# Altium schematic symbol library RPIadaptor.SchLib: 47 symbols (part 2 of 2)
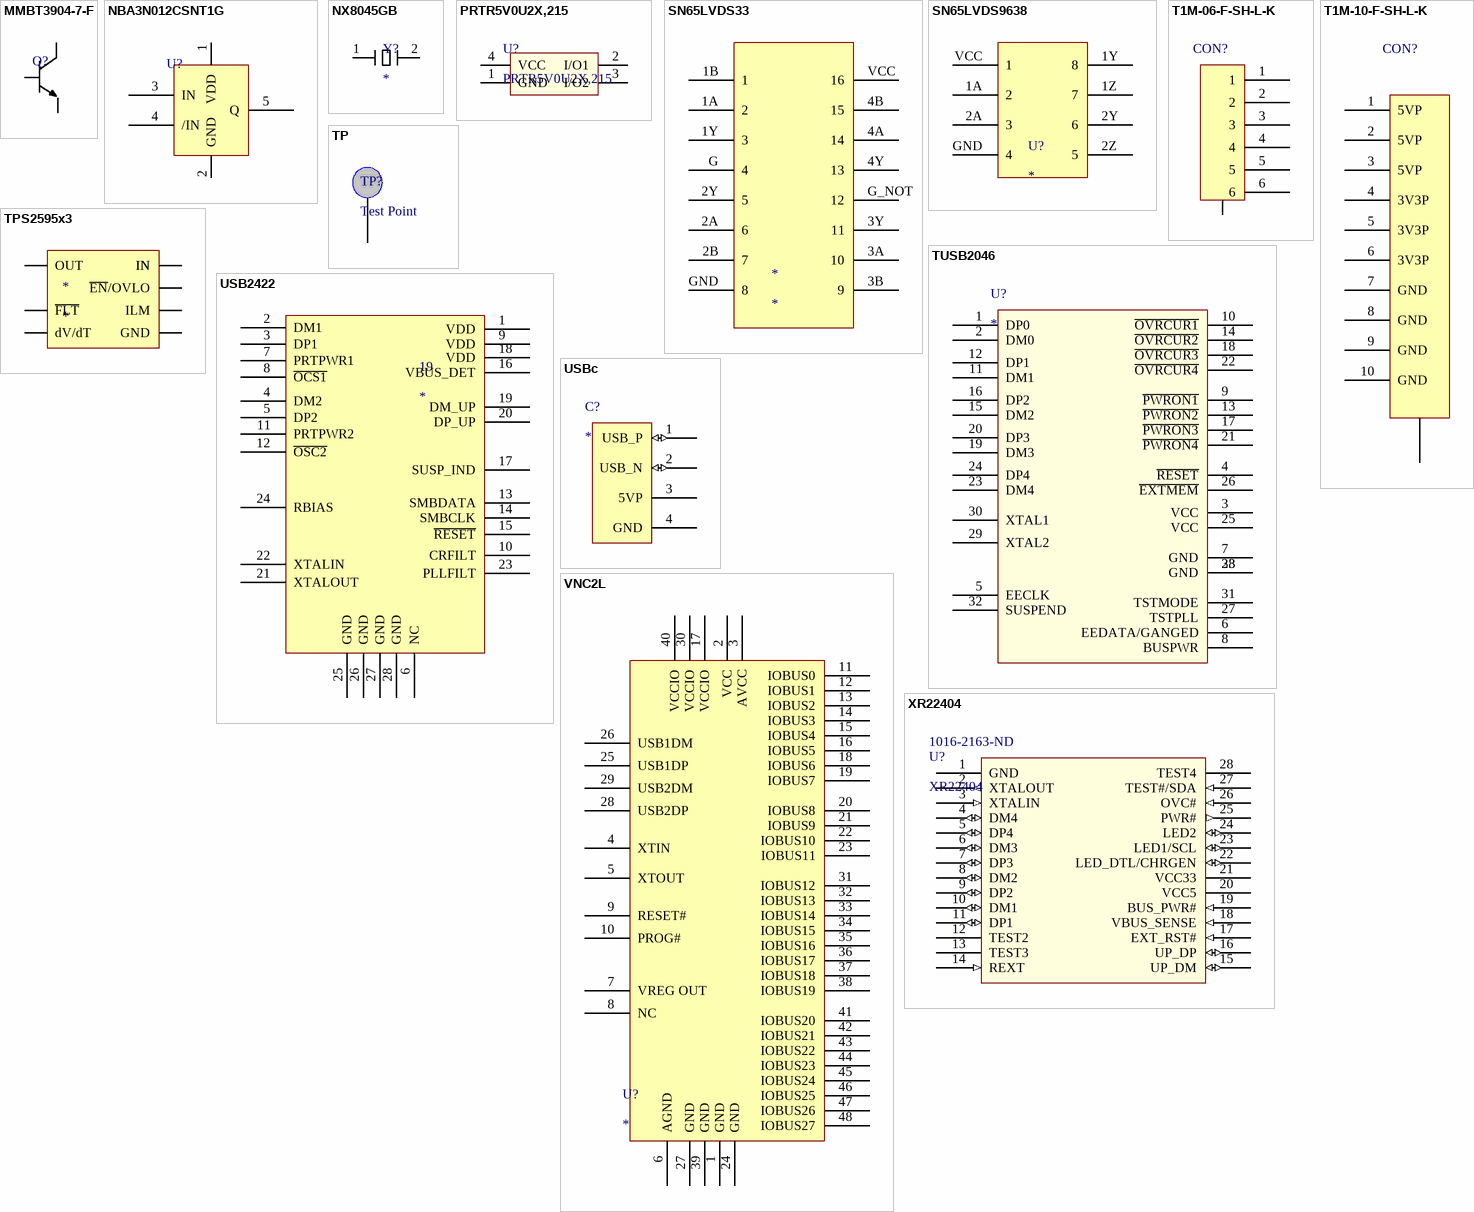
[diagram p2: symbols MMBT3904-7-F to XR22404]

## MMBT3904-7-F
designator Q?
Bipolar (BJT) Transistor NPN 40V 200mA 300MHz 300mW Surface Mount SOT-23-3; Manufacturer: Diodes Zetex; Manufacturer Part Number: MMBT3904-7-F; Configuration: Single; Collector- Base Voltage VCBO: 60 V; Emitter- Base Voltage VEBO: 6 V; Collector-Emitter Saturation Voltage: 0.3 V; Maximum DC Collector Current: 0.2 A; Brand: Diodes Incorporated; DC Collector/Base Gain hfe Min: 100; DC Current Gain hFE Max: 300; Pd - Power Dissipation: 310 mW; Unit Weight: 0.000282 oz; Supplier 1: Digi-Key; Stock 1: 1491605; Pricing 1: 1=0.13, 10=0.119, 100=0.0648, 500=0.0399, 1000=0.0272 (USD); Product Category: Bipolar Transistors - BJT; RoHS: True; Mounting Style: SMD/SMT; Package / Case: SOT-23; Transistor Polarity: NPN; Collector- Emitter Voltage VCEO Max: 40 V; Gain Bandwidth Product fT: 300 MHz; Maximum Operating Temperature: + 150 C; Series: MMBT3904; Continuous Collector Current: 0.2 A; Height: 1 mm; Length: 3.05 mm; Minimum Operating Temperature: - 55 C; Packaging: Reel; Factory Pack Quantity: 3000; Width: 1.4 mm; ComponentLink1URL: https://datasheet.ciiva.com/11201/ds30036-11201778.pdf; ComponentLink1Description: https://datasheet.ciiva.com/11201/ds30036-11201778.pdf; ComponentLink2URL: https://datasheet.ciiva.com/6361/ds30036-6361254.pdf; ComponentLink2Description: https://datasheet.ciiva.com/6361/ds30036-6361254.pdf; ComponentLink3URL: https://datasheet.ciiva.com/22711/1915516-22711750.pdf; ComponentLink3Description: https://datasheet.ciiva.com/22711/1915516-22711750.pdf; ComponentLink4URL: https://datasheet.ciiva.com/11198/ds30036-11198999.pdf; ComponentLink4Description: https://datasheet.ciiva.com/11198/ds30036-11198999.pdf; ComponentLink5URL: https://datasheet.ciiva.com/16615/ds30036-16615399.pdf; ComponentLink5Description: https://datasheet.ciiva.com/16615/ds30036-16615399.pdf; ComponentLink6URL: https://datasheet.ciiva.com/6361/ds30036-6361256.pdf; ComponentLink6Description: https://datasheet.ciiva.com/6361/ds30036-6361256.pdf; ComponentLink7URL: https://datasheet.ciiva.com/15138/getdatasheetpartid-53265-15138780.pdf; ComponentLink7Description: https://datasheet.ciiva.com/15138/getdatasheetpartid-53265-15138780.pdf; Supplier Part Number 1: MMBT3904-FDICT-ND
footprint MMBT3904-7-F (SOT23-3)
pins: B, C, E

## NBA3N012CSNT1G
designator U?  (value not drawn)
IC RECEIVER LVDS 3.3V SOT23-5; Manufacturer: ON Semiconductor; Supplier 1: Digi-Key; Manufacturer Part Number: NBA3N012CSNT1G; Stock 1: 0; Supplier Part Number 1: NBA3N012CSNT1GOSCT-ND
footprint NBA3N012CSNT1G (SOT23, 5-Leads, Body 2.90x2.80mm, Pitch 0.95mm, IPC Medium Density)
pins: 1 VDD, 2 GND (power), 3 IN, 4 /IN, 5 Q

## NX8045GB
designator Y?
footprint NX8045GB
pins: 1, 2

## PRTR5V0U2X,215
designator U?
TVS DIODE 5.5VWM SOT143B; Manufacturer: NXP Semiconductors; Capacitance Value: 16pF; Configuration: Quad; Direction Type: Uni-Directional; ESD Protection Voltage: 8KV@Contact Disc; Leakage Current: 0.1uA; Number of  Elements: 1; Product Depth (mm): 1.4 mm; Product Height (mm): 1 mm; Product Length (mm): 3 mm; Rad Hardened: No; Reverse Breakdown Voltage: 6 V; Reverse Stand-off Voltage: 5.5 V; Suppressor Type: Diode Arrays; Working Voltage: 5.5V; Supplier 1: Digi-Key; Manufacturer Part Number: PRTR5V0U2X,215; Stock 1: 73838; Pricing 1: 1=0.52, 10=0.447, 100=0.334, 500=0.2624, 1000=0.2028 (USD); Leakage Current (Max): 0.1uA; Mounting: Surface Mount; Mounting Style: Surface Mount; Operating Temp Range: -40C to 85C; Operating Temperature Classification: Industrial; Operating Temperature Max Deg. C: 85C; Operating Temperature Min Deg. C: -40C; Package / Case: SOT; Package Type: SOT; Packaging: Tape and Reel; Pin Count: 3 +Tab; Polarity: Uni-Directional; Working Voltage (Max): 5.5V; ComponentLink1URL: https://datasheet.ciiva.com/4479/prtr5v0u2x-102853-4479461.pdf; ComponentLink1Description: https://datasheet.ciiva.com/4479/prtr5v0u2x-102853-4479461.pdf; ComponentLink2URL: https://datasheet.ciiva.com/16199/prtr5v0u2x-16199605.pdf; ComponentLink2Description: https://datasheet.ciiva.com/16199/prtr5v0u2x-16199605.pdf; ComponentLink3URL: https://datasheet.ciiva.com/28409/109718-28409830.pdf; ComponentLink3Description: https://datasheet.ciiva.com/28409/109718-28409830.pdf; ComponentLink4URL: https://datasheet.ciiva.com/6918/109718-6918650.pdf; ComponentLink4Description: https://datasheet.ciiva.com/6918/109718-6918650.pdf; ComponentLink5URL: https://datasheet.ciiva.com/335/prtr5v0u2x-335467.pdf; ComponentLink5Description: https://datasheet.ciiva.com/335/prtr5v0u2x-335467.pdf; ComponentLink6URL: https://datasheet.ciiva.com/25919/prtr5v0u2x-25919147.pdf; ComponentLink6Description: https://datasheet.ciiva.com/25919/prtr5v0u2x-25919147.pdf; ComponentLink7URL: https://datasheet.ciiva.com/11193/prtr5v0u2x-11193230.pdf; ComponentLink7Description: https://datasheet.ciiva.com/11193/prtr5v0u2x-11193230.pdf; ComponentLink8URL: https://datasheet.ciiva.com/31402/109718-31402206.pdf; ComponentLink8Description: https://datasheet.ciiva.com/31402/109718-31402206.pdf; ComponentLink9URL: https://datasheet.ciiva.com/26787/prtr5v0u2x-215-26787348.pdf; ComponentLink9Description: https://datasheet.ciiva.com/26787/prtr5v0u2x-215-26787348.pdf; Supplier Part Number 1: 1727-3884-1-ND
footprint SOT143B (SOT143, 4-Leads, Body 2.90x2.30mm, Pitch 1.90mm, IPC Medium Density)
pins: 1 GND, 2 I/O1, 3 I/O2, 4 VCC

## SN65LVDS33
designator *
footprint SOIC127P820X265-8N (SOIC, 8-Leads, Body 6.40x5.71mm, Pitch 1.27mm, IPC Medium Density); pin to pad 1A>2 1B>1 1Y>3 2A>6 2B>7 2Y>5 3A>10 3B>9 3Y>11 4A>14 4B>15 4Y>13 G>4 G_NOT>12 GND>8 VCC>16
pins: 1A 2, 1B 1, 1Y 3, 2A 6, 2B 7, 2Y 5, 3A 10, 3B 9, 3Y 11, 4A 14, 4B 15, 4Y 13, G 4, G_NOT 12, GND 8, VCC 16

## SN65LVDS9638
designator U?
footprint SN65LVDS31; pin to pad 1A>2 1Y>8 1Z>7 2A>3 2Y>6 2Z>5 GND>4 VCC>1
pins: 1A 2, 1Y 8, 1Z 7, 2A 3, 2Y 6, 2Z 5, GND 4, VCC 1

## T1M-06-F-SH-L-K
designator CON?
6 Positions Header Connector Surface Mount, Right Angle; Manufacturer: Samtec; Manufacturer Part Number: T1M-06-F-SH-L-K; Supplier 1: Digi-Key; Stock 1: 0; Supplier Part Number 1: SAM11991-ND
footprint T1M-06-F-SH-L-K
pins: 1, 2, 3, 4, 5, 6, GND

## T1M-10-F-SH-L-K
designator CON?
10 Positions Header Connector Surface Mount, Right Angle
footprint T1M-10-F-SH-L-K
pins: 1 5VP (power), 2 5VP (power), 3 5VP (power), 4 3V3P (power), 5 3V3P (power), 6 3V3P (power), 7 GND (power), 8 GND (power), 9 GND (power), 10 GND (power), GND (power)

## TP
designator TP?, comment Test Point
footprint TP
pins: 1

## TPS2595x3
designator *
footprint SON8 (2x2)
pins: 1 dV/dT, 2 ~{EN}/OVLO, 3 IN, 4 IN, 5 OUT, 6 ~{FLT}, 7 ILM, 8 GND, 9

## TUSB2046
designator U?
4X USB2.0 MUX
footprint VQFN32
pins: 1 DP0, 2 DM0, 3 VCC, 4 ~{RESET}, 5 EECLK, 6 EEDATA/GANGED, 7 GND (power), 8 BUSPWR, 9 ~{PWRON1}, 10 ~{OVRCUR1}, 11 DM1, 12 DP1, 13 ~{PWRON2}, 14 ~{OVRCUR2}, 15 DM2, 16 DP2, 17 ~{PWRON3}, 18 ~{OVRCUR3}, 19 DM3, 20 DP3, 21 ~{PWRON4}, 22 ~{OVRCUR4}, 23 DM4, 24 DP4, 25 VCC, 26 ~{EXTM}~{EM}, 27 TSTPLL, 28 GND, 29 XTAL2, 30 XTAL1, 31 TSTMODE, 32 SUSPEND, 33

## USB2422
designator 19
footprint QFN-24
pins: 1 VDD, 2 DM1, 3 DP1, 4 DM2, 5 DP2, 6 NC, 7 PRTPWR1, 8 ~{OCS1}, 9 VDD, 10 CRFILT, 11 PRTPWR2, 12 ~{OSC2}, 13 SMBDATA, 14 SMBCLK, 15 ~{RESET}, 16 VBUS_DET, 17 SUSP_IND, 18 VDD, 19 DM_UP, 20 DP_UP, 21 XTALOUT, 22 XTALIN, 23 PLLFILT, 24 RBIAS, 25 GND, 26 GND, 27 GND, 28 GND

## USBc
designator C?
footprint 4holes
pins: 1 USB_P (io), 2 USB_N (io), 3 5VP (power), 4 GND (power)

## VNC2L
designator U?
footprint VNC2L
pins: 1 GND, 2 VCC, 3 AVCC, 4 XTIN, 5 XTOUT, 6 AGND, 7 VREG OUT, 8 NC, 9 RESET#, 10 PROG#, 11 IOBUS0, 12 IOBUS1, 13 IOBUS2, 14 IOBUS3, 15 IOBUS4, 16 IOBUS5, 17 VCCIO, 18 IOBUS6, 19 IOBUS7, 20 IOBUS8, 21 IOBUS9, 22 IOBUS10, 23 IOBUS11, 24 GND, 25 USB1DP, 26 USB1DM, 27 GND, 28 USB2DP, 29 USB2DM, 30 VCCIO, 31 IOBUS12, 32 IOBUS13, 33 IOBUS14, 34 IOBUS15, 35 IOBUS16, 36 IOBUS17, 37 IOBUS18, 38 IOBUS19, 39 GND, 40 VCCIO, 41 IOBUS20, 42 IOBUS21, 43 IOBUS22, 44 IOBUS23, 45 IOBUS24, 46 IOBUS25, 47 IOBUS26, 48 IOBUS27

## XR22404
designator U?  Supplier Part Number 1: 1016-2163-ND
4 x USB2.0 MUX; Manufacturer: Exar; Manufacturer Part Number: XR22404CG28-F; Protocol: USB; Function: Controller; Voltage - Supply: 3 V ~ 5.5 V; Supplier 1: Digikey; Stock 1: 0; Pricing 1: 1=2.17, 10=1.961, 100=1.5759, 250=1.4008, 500=1.2257, 1000=1.0156, 2500=0.9455, 5000=0.9105, 10000=0.8755 (USD); Category: Integrated Circuits (ICs); Family: Interface - Controllers; Series: -; Packaging: *; Part Status: Active; Interface: USB; Standards: USB 2.0; Current - Supply: -; Operating Temperature: 0°C ~ 70°C; Package / Case: *; Supplier Device Package: *
footprint SSOP-28
pins: 1 GND (power), 2 XTALOUT (out), 3 XTALIN (in), 4 DM4 (io), 5 DP4 (io), 6 DM3 (io), 7 DP3 (io), 8 DM2 (io), 9 DP2 (io), 10 DM1 (io), 11 DP1 (io), 12 TEST2, 13 TEST3, 14 REXT (in), 15 UP_DM (io), 16 UP_DP (io), 17 EXT_RST# (in), 18 VBUS_SENSE (in), 19 BUS_PWR# (in), 20 VCC5 (power), 21 VCC33 (power), 22 LED_DTL/CHRGEN (io), 23 LED1/SCL (io), 24 LED2 (io), 25 PWR# (out), 26 OVC# (in), 27 TEST#/SDA (in), 28 TEST4